# EAGLE library part A3903 (library stan)
Allegro Low Voltage DC Motor Driver (A3903) Package: DFN-8
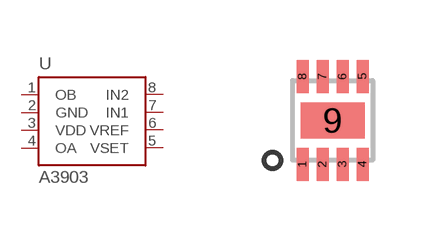
[diagram p2: symbol with the pads of DFN-8; footprint DFN-8]

Designator prefix -

## A3903S  [DFN-8]
1  OB
2  GND
3  VDD
4  OA
5  VSET
6  VREF
7  IN1
8  IN2

## Footprint DFN-8 (pad centres in mm)
smd 0.3 x 0.83: 1 -0.75,-1.1; 2 -0.25,-1.1; 3 0.25,-1.1; 4 0.75,-1.1; 5 0.75,1.1; 6 0.25,1.1; 7 -0.25,1.1; 8 -0.75,1.1
smd 1.6 x 0.9: 9 0,0